# Altium schematic symbol library CAP_100uF.SchLib: 1 symbol
Pins are listed as number, name and electrical type; pins without a type are passive.

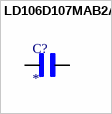
[diagram p0: symbol LD106D107MAB2A]

## LD106D107MAB2A
designator C?
Cap Ceramic 100uF 6.3V X5R 20% SMD 1210 85ÂÂŽ T/R; MP: LD106D107MAB2A; Package: None; Price: None; Value: *; Availability: Unavailable
footprint CAPC3225X279N
pins: 1, 2